# Altium schematic symbol library etzlib.SchLib: 1 symbol
Pins are listed as number, name and electrical type; pins without a type are passive.

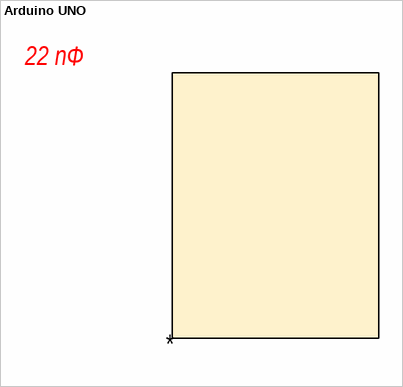
[diagram p0: symbol Arduino UNO]

## Arduino UNO
designator A?
контроллер на базе atmega328p; designator: Designator
text: 22 пФ